# Altium footprint library LedRgbWs2812b.PcbLib: 1 footprints
Each footprint in its own frame and in the unit in brackets; x right, y up, seen from the top. Pads: shape width x height; smd on the part's side, far side on the other; paste and mask are expansions set on the pad; w line width, h text height; cw(c..) or ccw(c..) is an arc to the next point about the centre after c.
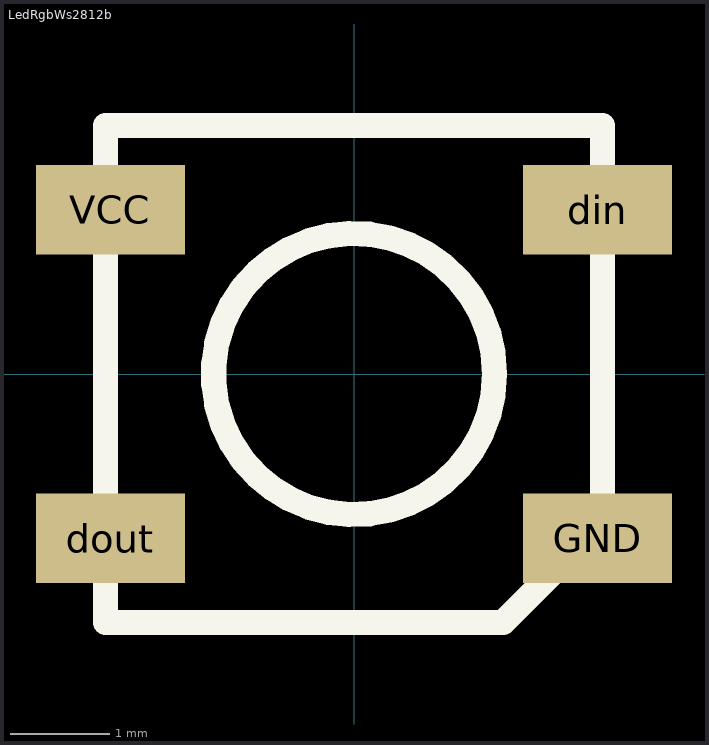
[diagram p0: the footprint, top view; thin cyan lines are the x and y axes]

## LedRgbWs2812b [mm]
pads (4):
  rect 1.5x0.9 smd: din(2.45,1.65) dout(-2.45,-1.65) GND(2.45,-1.65) VCC(-2.45,1.65)
Top Overlay:
  circle w0.254: c0,0 r1.414
  lines w0.254: -2.5,-2.5 -2.5,2.5 2.5,2.5 2.5,-1.5 1.5,-2.5 -2.5,-2.5